# Altium footprint library FUSC8664X180N.PcbLib: 1 footprints
Each footprint in its own frame and in the unit in brackets; x right, y up, seen from the top. Pads: shape width x height; smd on the part's side, far side on the other; paste and mask are expansions set on the pad; w line width, h text height; cw(c..) or ccw(c..) is an arc to the next point about the centre after c.
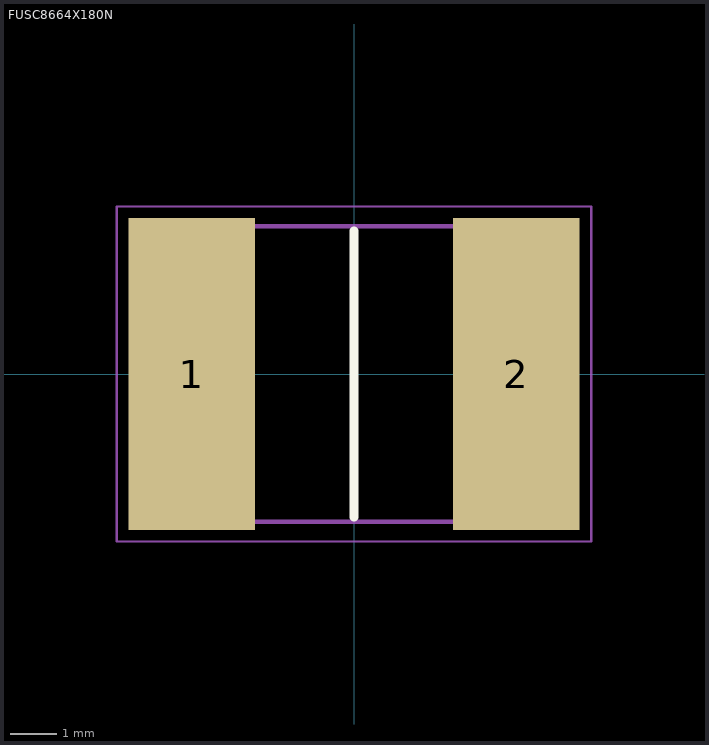
[diagram p0: the footprint, top view; thin cyan lines are the x and y axes]

## FUSC8664X180N [mm]
pads (2):
  rect 2.73x6.71 smd: 1(-3.49,0) 2(3.49,0)
Top Overlay:
  lines w0.2: 0,-3.075 0,3.075
Mechanical 15:
  lines w0.1: -4.325,-3.175 4.325,-3.175 4.325,3.175 -4.325,3.175 -4.325,-3.175
Mechanical 20:
  lines w0.05: -5.105,-3.605 5.105,-3.605 5.105,3.605 -5.105,3.605 -5.105,-3.605